# EAGLE library part TPS40345DRCR (library TPS40345DRCR)
DC/DC Cntrlr Single-OUT Step Down 660kHz 10-Pin VSON EP T/R Source: Datasheet <http://www.ti.com/lit/gpn/tps40303>
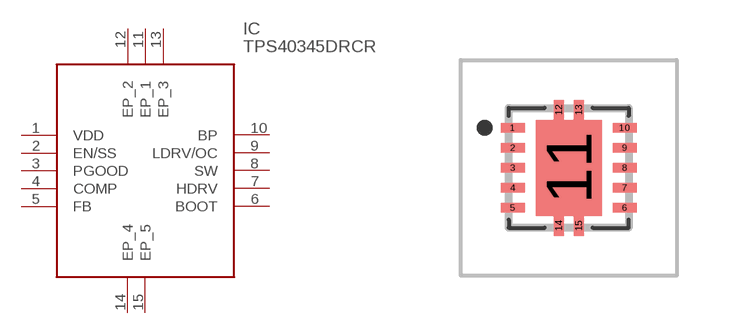
[diagram p0: symbol with the pads of TPS61200DRCR; footprint TPS61200DRCR]

Designator prefix IC

## TPS40345DRCR (Description: DC/DC Cntrlr Single-OUT Step Down 660kHz 10-Pin VSON EP T/R; Height: 0.8mm; Manufacturer_Name: Texas Instruments; Manufacturer_Part_Number: TPS40345DRCR; Mouser_Part_Number: 595-TPS40345DRCR; Mouser_Price-Stock: https://www.mouser.co.uk/ProductDetail/Texas-Instruments/TPS40345DRCR?qs=W0yvOO0ixfHYhBNpszvmBg%3D%3D)  [TPS61200DRCR]
1  VDD
2  EN/SS
3  PGOOD
4  COMP
5  FB
6  BOOT
7  HDRV
8  SW
9  LDRV/OC
10  BP
11  EP_1
12  EP_2
13  EP_3
14  EP_4
15  EP_5

## Footprint TPS61200DRCR (pad centres in mm)
DRC0010J-1
smd 0.6 x 0.24: 1 -1.4,1; 2 -1.4,0.5; 3 -1.4,0; 4 -1.4,-0.5; 5 -1.4,-1; 6 1.4,-1; 7 1.4,-0.5; 8 1.4,0; 9 1.4,0.5; 10 1.4,1
smd 1.65 x 2.4: 11 0,0
smd 0.25 x 0.5: 12 -0.25,1.45; 13 0.25,1.45; 14 -0.25,-1.45; 15 0.25,-1.45